# Altium footprint library IC_And_Boards.PcbLib: 5 footprints
Each footprint in its own frame and in the unit in brackets; x right, y up, seen from the top. Pads: shape width x height; smd on the part's side, far side on the other; paste and mask are expansions set on the pad; w line width, h text height; cw(c..) or ccw(c..) is an arc to the next point about the centre after c.
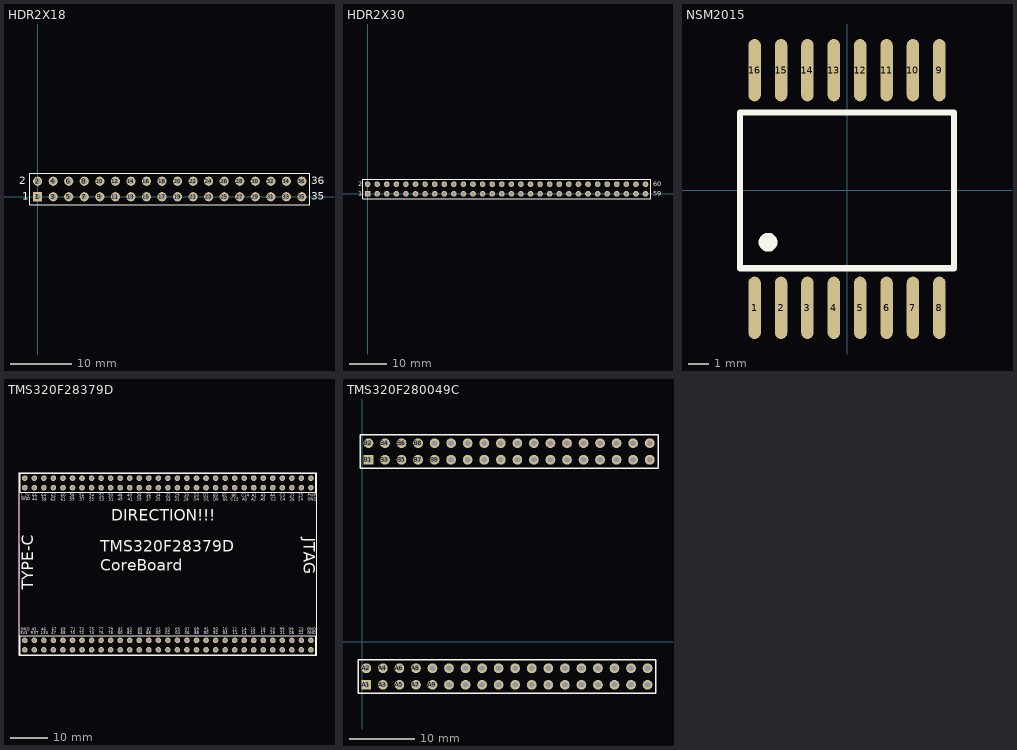
[diagram p0: the footprints below, top view; thin cyan lines are the x and y axes]

## HDR2X18 [mm] "Connector; Header; 18x2 Position"
pads (36):
  rect 1.5x1.5 hole 0.9: 1(0,0)
  round 1.5 hole 0.9: 2(0,2.54) 3(2.54,0) 4(2.54,2.54) 5(5.08,0) 6(5.08,2.54) 7(7.62,0) 8(7.62,2.54) 9(10.16,0) 10(10.16,2.54) 11(12.7,0) 12(12.7,2.54) 13(15.24,0) 14(15.24,2.54) 15(17.78,0) 16(17.78,2.54) 17(20.32,0) 18(20.32,2.54) 19(22.86,0) 20(22.86,2.54) 21(25.4,0) 22(25.4,2.54) 23(27.94,0) 24(27.94,2.54) 25(30.48,0) 26(30.48,2.54) 27(33.02,0) 28(33.02,2.54) 29(35.56,0) 30(35.56,2.54) 31(38.1,0) 32(38.1,2.54) 33(40.64,0) 34(40.64,2.54) 35(43.18,0) 36(43.18,2.54)
Top Overlay:
  lines w0.2: -1.27,-1.27 44.45,-1.27 44.45,3.81 -1.27,3.81 -1.27,-1.27
  text "36" at 44.704,2.032 h1.27
  text "35" at 44.704,-0.508 h1.27
  text "1" at -2.54,-0.508 h1.27
  text "2" at -3.048,2.032 h1.27

## HDR2X30 [mm] "Connector; Header; 30x2 Position"
pads (60):
  rect 1.5x1.5 hole 0.9: 1(0,0)
  round 1.5 hole 0.9: 2(0,2.54) 3(2.54,0) 4(2.54,2.54) 5(5.08,0) 6(5.08,2.54) 7(7.62,0) 8(7.62,2.54) 9(10.16,0) 10(10.16,2.54) 11(12.7,0) 12(12.7,2.54) 13(15.24,0) 14(15.24,2.54) 15(17.78,0) 16(17.78,2.54) 17(20.32,0) 18(20.32,2.54) 19(22.86,0) 20(22.86,2.54) 21(25.4,0) 22(25.4,2.54) 23(27.94,0) 24(27.94,2.54) 25(30.48,0) 26(30.48,2.54) 27(33.02,0) 28(33.02,2.54) 29(35.56,0) 30(35.56,2.54) 31(38.1,0) 32(38.1,2.54) 33(40.64,0) 34(40.64,2.54) 35(43.18,0) 36(43.18,2.54) 37(45.72,0) 38(45.72,2.54) 39(48.26,0) 40(48.26,2.54) 41(50.8,0) 42(50.8,2.54) 43(53.34,0) 44(53.34,2.54) 45(55.88,0) 46(55.88,2.54) 47(58.42,0) 48(58.42,2.54) 49(60.96,0) 50(60.96,2.54) 51(63.5,0) 52(63.5,2.54) 53(66.04,0) 54(66.04,2.54) 55(68.58,0) 56(68.58,2.54) 57(71.12,0) 58(71.12,2.54) 59(73.66,0) 60(73.66,2.54)
Top Overlay:
  lines w0.2: -1.27,-1.27 -1.27,3.81 75.06,3.81 75.06,-1.27 -1.27,-1.27
  text "2" at -2.54,2.032 h1.27
  text "1" at -2.54,-0.508 h1.27
  text "59" at 75.692,-0.508 h1.27
  text "60" at 75.692,2.032 h1.27
Bottom Overlay:
  text "1" at -55.88,-0.508 h1.27

## NSM2015 [mm]
pads (16):
  oval 0.6x3 smd: 1(-4.445,-5.658) 2(-3.175,-5.658) 3(-1.905,-5.658) 4(-0.635,-5.658) 5(0.635,-5.658) 6(1.905,-5.658) 7(3.175,-5.658) 8(4.445,-5.658) 9(4.445,5.785) 10(3.175,5.785) 11(1.905,5.785) 12(0.635,5.785) 13(-0.635,5.785) 14(-1.905,5.785) 15(-3.175,5.785) 16(-4.445,5.785)
Top Overlay:
  circle w0.5: c-3.8,-2.5 r0.2
  lines w0.3: -5.15,-3.75 5.15,-3.75 5.15,3.75 -5.15,3.75 -5.15,-3.75

## TMS320F28379D [mm]
pads (124):
  round 1.5 hole 0.9: A1(585.692,527.521) A2(585.692,524.981) A3(583.152,527.521) A4(583.152,524.981) A5(580.612,527.521) A6(580.612,524.981) A7(578.072,527.521) A8(578.072,524.981) A9(575.532,527.521) A10(575.532,524.981) A11(572.992,527.521) A12(572.992,524.981) A13(570.452,527.521) A14(570.452,524.981) A15(567.912,527.521) A16(567.912,524.981) A17(565.372,527.521) A18(565.372,524.981) A19(562.832,527.521) A20(562.832,524.981) A21(560.292,527.521) A22(560.292,524.981) A23(557.752,527.521) A24(557.752,524.981) A25(555.212,527.521) A26(555.212,524.981) A27(552.672,527.521) A28(552.672,524.981) A29(550.132,527.521) A30(550.132,524.981) A31(547.592,527.521) A32(547.592,524.981) A33(545.052,527.521) A34(545.052,524.981) A35(542.512,527.521) A36(542.512,524.981) A37(539.972,527.521) A38(539.972,524.981) A39(537.432,527.521) A40(537.432,524.981) A41(534.892,527.521) A42(534.892,524.981) A43(532.352,527.521) A44(532.352,524.981) A45(529.812,527.521) A46(529.812,524.981) A47(527.272,527.521) A48(527.272,524.981) A49(524.732,527.521) A50(524.732,524.981) A51(522.192,527.521) A52(522.192,524.981) A53(519.652,527.521) A54(519.652,524.981) A55(517.112,527.521) A56(517.112,524.981) A57(514.572,527.521) A58(514.572,524.981) A59(512.032,527.521) A60(512.032,524.981) A61(509.492,527.521) A62(509.492,524.981) B1(509.492,568.161) B2(509.492,570.701) B3(512.032,568.161) B4(512.032,570.701) B5(514.572,568.161) B6(514.572,570.701) B7(517.112,568.161) B8(517.112,570.701) B9(519.652,568.161) B10(519.652,570.701) B11(522.192,568.161) B12(522.192,570.701) B13(524.732,568.161) B14(524.732,570.701) B15(527.272,568.161) B16(527.272,570.701) B17(529.812,568.161) B18(529.812,570.701) B19(532.352,568.161) B20(532.352,570.701) B21(534.892,568.161) B22(534.892,570.701) B23(537.432,568.161) B24(537.432,570.701) B25(539.972,568.161) B26(539.972,570.701) B27(542.512,568.161) B28(542.512,570.701) B29(545.052,568.161) B30(545.052,570.701) B31(547.592,568.161) B32(547.592,570.701) B33(550.132,568.161) B34(550.132,570.701) B35(552.672,568.161) B36(552.672,570.701) B37(555.212,568.161) B38(555.212,570.701) B39(557.752,568.161) B40(557.752,570.701) B41(560.292,568.161) B42(560.292,570.701) B43(562.832,568.161) B44(562.832,570.701) B45(565.372,568.161) B46(565.372,570.701) B47(567.912,568.161) B48(567.912,570.701) B49(570.452,568.161) B50(570.452,570.701) B51(572.992,568.161) B52(572.992,570.701) B53(575.532,568.161) B54(575.532,570.701) B55(578.072,568.161) B56(578.072,570.701) B57(580.612,568.161) B58(580.612,570.701) B59(583.152,568.161) B60(583.152,570.701) B61(585.692,568.161) B62(585.692,570.701)
Top Overlay:
  lines w0.152: 507.949,523.494 587.172,523.494 587.172,572.211 507.949,572.211 507.949,523.494
  lines w0.2: 508.222,523.711 586.962,523.711 586.962,528.791 508.222,528.791 508.222,523.711 ; 508.222,566.891 586.962,566.891 586.962,571.971 508.222,571.971 508.222,566.891
  text "TMS320F28379D / CoreBoard" at 529.596,545.008 h5.08
  text "DIRECTION!!!" at 532.511,558.302 h5.08
  text "TYPE-C" at 512.867,540.944 h5.08
  text "JTAG" at 582.755,554.812 h5.08
  text "63" at 516.454,564.732 h0.76
  text "62" at 516.48,565.774 h0.76
  text "55" at 526.64,564.732 h0.76
  text "54" at 526.64,565.774 h0.76
  text "53" at 529.307,564.732 h0.76
  text "52" at 529.307,565.774 h0.76
  text "60" at 519.02,565.774 h0.76
  text "59" at 521.509,564.732 h0.76
  text "58" at 521.483,565.774 h0.76
  text "56" at 524.049,565.774 h0.76
  text "57" at 524.095,564.732 h0.76
  text "61" at 519.056,564.732 h0.76
  text "24" at 582.367,564.732 h0.76
  text "25" at 582.367,565.774 h0.76
  text "27" at 580.056,565.774 h0.76
  text "C3" at 577.444,565.774 h0.76
  text "C4" at 577.457,564.732 h0.76
  text "D0" at 559.71,564.732 h0.76
  text "B3" at 559.66,565.774 h0.76
  text "26" at 579.98,564.732 h0.76
  text "28" at 551.836,564.732 h0.76
  text "D2" at 557.018,565.774 h0.76
  text "30" at 551.913,565.774 h0.76
  text "D4" at 554.478,564.732 h0.76
  text "D3" at 554.478,565.774 h0.76
  text "D1" at 557.17,564.732 h0.76
  text "31" at 549.373,564.732 h0.76
  text "32" at 547.01,565.774 h0.76
  text "33" at 546.96,564.732 h0.76
  text "34" at 544.42,565.774 h0.76
  text "29" at 549.373,565.774 h0.76
  text "35" at 544.394,564.732 h0.76
  text "39" at 539.238,564.732 h0.76
  text "38" at 539.263,565.774 h0.76
  text "37" at 541.88,564.732 h0.76
  text "36" at 541.88,565.774 h0.76
  text "A5" at 572.385,564.732 h0.76
  text "A2" at 569.794,564.732 h0.76
  text "A1" at 569.896,565.774 h0.76
  text "A3" at 572.385,565.774 h0.76
  text "A4" at 574.9,565.774 h0.76
  text "C2" at 574.925,564.732 h0.76
  text "C15" at 564.384,564.732 h0.76
  text "B1" at 562.352,564.732 h0.76
  text "B2" at 562.123,565.774 h0.76
  text "B0" at 564.638,565.774 h0.76
  text "C14" at 567.178,565.774 h0.76
  text "A0" at 567.356,564.707 h0.76
  text "49" at 534.206,564.732 h0.76
  text "51" at 531.897,564.732 h0.76
  text "50" at 531.775,565.774 h0.76
  text "48" at 534.209,565.774 h0.76
  text "40" at 536.749,565.774 h0.76
  text "41" at 536.876,564.732 h0.76
  text "66" at 511.476,565.774 h0.76
  text "64" at 513.914,565.774 h0.76
  text "58" at 513.94,564.732 h0.76
  text "133" at 513.711,529.096 h0.76
  text "46" at 513.914,530.112 h0.76
  text "GND" at 508.352,530.112 h0.76
  text "3V3" at 508.326,529.096 h0.76
  text "82" at 536.774,529.096 h0.76
  text "83" at 536.8,530.112 h0.76
  text "81" at 534.361,530.112 h0.76
  text "79" at 531.699,530.112 h0.76
  text "78" at 531.712,529.096 h0.76
  text "80" at 534.282,529.096 h0.76
  text "13" at 567.205,529.096 h0.76
  text "14" at 567.203,530.112 h0.76
  text "12" at 564.74,530.112 h0.76
  text "10" at 562.225,530.112 h0.76
  text "94" at 562.149,529.096 h0.76
  text "11" at 564.892,529.096 h0.76
  text "19" at 574.849,529.096 h0.76
  text "20" at 574.823,530.112 h0.76
  text "18" at 572.309,530.112 h0.76
  text "16" at 569.693,530.112 h0.76
  text "15" at 569.723,529.096 h0.76
  text "17" at 572.306,529.096 h0.76
  text "87" at 541.981,530.112 h0.76
  text "86" at 541.829,529.096 h0.76
  text "85" at 539.568,530.112 h0.76
  text "84" at 539.543,529.096 h0.76
  text "00" at 544.42,529.096 h0.76
  text "05" at 549.55,530.112 h0.76
  text "01" at 544.521,530.112 h0.76
  text "02" at 546.883,529.096 h0.76
  text "03" at 546.883,530.112 h0.76
  text "04" at 549.55,529.096 h0.76
  text "90" at 557.145,529.096 h0.76
  text "89" at 554.63,530.112 h0.76
  text "88" at 554.63,529.096 h0.76
  text "07" at 552.09,530.112 h0.76
  text "91" at 557.221,530.112 h0.76
  text "06" at 552.09,529.096 h0.76
  text "08" at 579.878,529.096 h0.76
  text "93" at 559.634,530.112 h0.76
  text "92" at 559.634,529.096 h0.76
  text "21" at 577.465,529.096 h0.76
  text "99" at 577.343,530.112 h0.76
  text "09" at 579.827,530.112 h0.76
  text "23" at 582.443,530.112 h0.76
  text "22" at 582.469,529.096 h0.76
  text "68" at 519.045,529.096 h0.76
  text "72" at 524.044,529.096 h0.76
  text "73" at 524.023,530.112 h0.76
  text "71" at 521.687,530.112 h0.76
  text "70" at 521.585,529.096 h0.76
  text "69" at 519.096,530.112 h0.76
  text "77" at 529.18,530.112 h0.76
  text "76" at 529.18,529.096 h0.76
  text "75" at 526.614,530.112 h0.76
  text "74" at 526.614,529.096 h0.76
  text "67" at 516.607,530.112 h0.76
  text "47" at 516.505,529.096 h0.76
  text "44" at 511.45,564.732 h0.76
  text "45" at 511.323,530.112 h0.76
  text "RST" at 511.069,529.096 h0.76
  text "GND" at 584.747,529.096 h0.76
  text "GND" at 584.722,530.112 h0.76
  text "GND" at 584.78,564.732 h0.76
  text "PWR" at 584.78,565.774 h0.76
  text "GND" at 508.555,564.758 h0.76
  text "1.2V" at 508.377,565.774 h0.76
Bottom Overlay:
  text "1" at 641.572,528.029 h1.27
  text "1" at 453.612,567.653 h1.27
Keep-Out Layer:
  lines w0.127: 587.193,572.175 587.193,523.483 507.945,523.483 507.945,572.2 587.193,572.2 587.193,572.175 ; 587.193,572.175 587.193,572.175
Mechanical 15:
  lines w0.051: 508.184,544.032 508.184,552.972

## TMS320F280049C [mm]
pads (72):
  rect 1.5x1.5 hole 0.9: A1(0.61,-6.604) B1(0.94,27.94)
  round 1.5 hole 0.9: A2(0.61,-4.064) A3(3.15,-6.604) A4(3.15,-4.064) A5(5.69,-6.604) A6(5.69,-4.064) A7(8.23,-6.604) A8(8.23,-4.064) A9(10.77,-6.604) A10(10.77,-4.064) A11(13.31,-6.604) A12(13.31,-4.064) A13(15.85,-6.604) A14(15.85,-4.064) A15(18.39,-6.604) A16(18.39,-4.064) A17(20.93,-6.604) A18(20.93,-4.064) A19(23.47,-6.604) A20(23.47,-4.064) A21(26.01,-6.604) A22(26.01,-4.064) A23(28.55,-6.604) A24(28.55,-4.064) A25(31.09,-6.604) A26(31.09,-4.064) A27(33.63,-6.604) A28(33.63,-4.064) A29(36.17,-6.604) A30(36.17,-4.064) A31(38.71,-6.604) A32(38.71,-4.064) A33(41.25,-6.604) A34(41.25,-4.064) A35(43.79,-6.604) A36(43.79,-4.064) B2(0.94,30.48) B3(3.48,27.94) B4(3.48,30.48) B5(6.02,27.94) B6(6.02,30.48) B7(8.56,27.94) B8(8.56,30.48) B9(11.1,27.94) B10(11.1,30.48) B11(13.64,27.94) B12(13.64,30.48) B13(16.18,27.94) B14(16.18,30.48) B15(18.72,27.94) B16(18.72,30.48) B17(21.26,27.94) B18(21.26,30.48) B19(23.8,27.94) B20(23.8,30.48) B21(26.34,27.94) B22(26.34,30.48) B23(28.88,27.94) B24(28.88,30.48) B25(31.42,27.94) B26(31.42,30.48) B27(33.96,27.94) B28(33.96,30.48) B29(36.5,27.94) B30(36.5,30.48) B31(39.04,27.94) B32(39.04,30.48) B33(41.58,27.94) B34(41.58,30.48) B35(44.12,27.94) B36(44.12,30.48)
Top Overlay:
  lines w0.2: -0.66,-7.874 45.06,-7.874 45.06,-2.794 -0.66,-2.794 -0.66,-7.874 ; -0.33,26.67 45.39,26.67 45.39,31.75 -0.33,31.75 -0.33,26.67